# EAGLE library part ?M13B-SRSS-TB (library con-jst2)
Disconnectable Crimp style connector, 1.0mm pitch 13 contacts
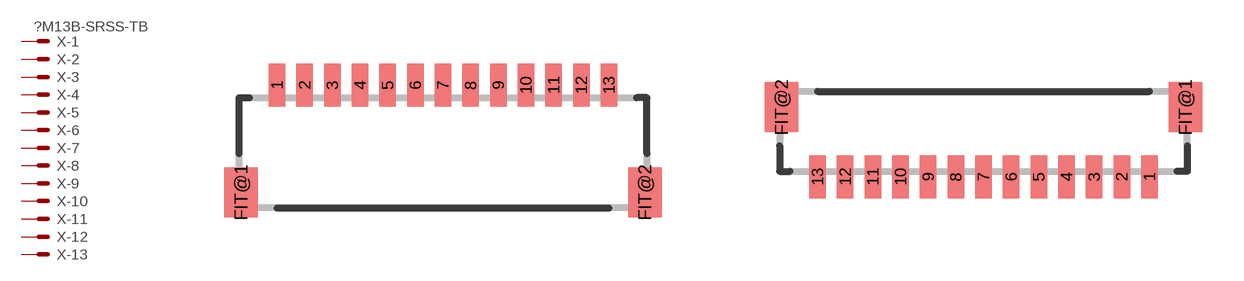
[diagram p29: symbol with the pads of SM13B-SRSS-TB; footprints SM13B-SRSS-TB, BM13B-SRSS-TB]

Designator prefix X; gates -1=KV -2=K -3=K -4=K -5=K -6=K -7=K -8=K -9=K -10=K -11=K -12=K -13=K

## SM13B-SRSS-TB  [SM13B-SRSS-TB]
1  -1:S  pas
2  -2:S  pas
3  -3:S  pas
4  -4:S  pas
5  -5:S  pas
6  -6:S  pas
7  -7:S  pas
8  -8:S  pas
9  -9:S  pas
10  -10:S  pas
11  -11:S  pas
12  -12:S  pas
13  -13:S  pas

## BM13B-SRSS-TB  [BM13B-SRSS-TB]
Pads as for SM13B-SRSS-TB

## Footprint SM13B-SRSS-TB (pad centres in mm)
Shrouded Header, side entry type
smd 0.6 x 1.55: 1 -6,2.975; 2 -5,2.975; 3 -4,2.975; 4 -3,2.975; 5 -2,2.975; 6 -1,2.975; 7 0,2.975; 8 1,2.975; 9 2,2.975; 10 3,2.975; 11 4,2.975; 12 5,2.975; 13 6,2.975
smd 1.2 x 1.8: FIT@1 -7.3,-0.9; FIT@2 7.3,-0.9

## Footprint BM13B-SRSS-TB (pad centres in mm)
Shrouded Header, top entry type
smd 0.6 x 1.55: 1 6,-1.625; 2 5,-1.625; 3 4,-1.625; 4 3,-1.625; 5 2,-1.625; 6 1,-1.625; 7 0,-1.625; 8 -1,-1.625; 9 -2,-1.625; 10 -3,-1.625; 11 -4,-1.625; 12 -5,-1.625; 13 -6,-1.625
smd 1.2 x 1.8: FIT@1 7.3,0.9; FIT@2 -7.3,0.9